# Altium integrated library National Semiconductor Interface.IntLib: 1433 symbols (part 14 of 51)
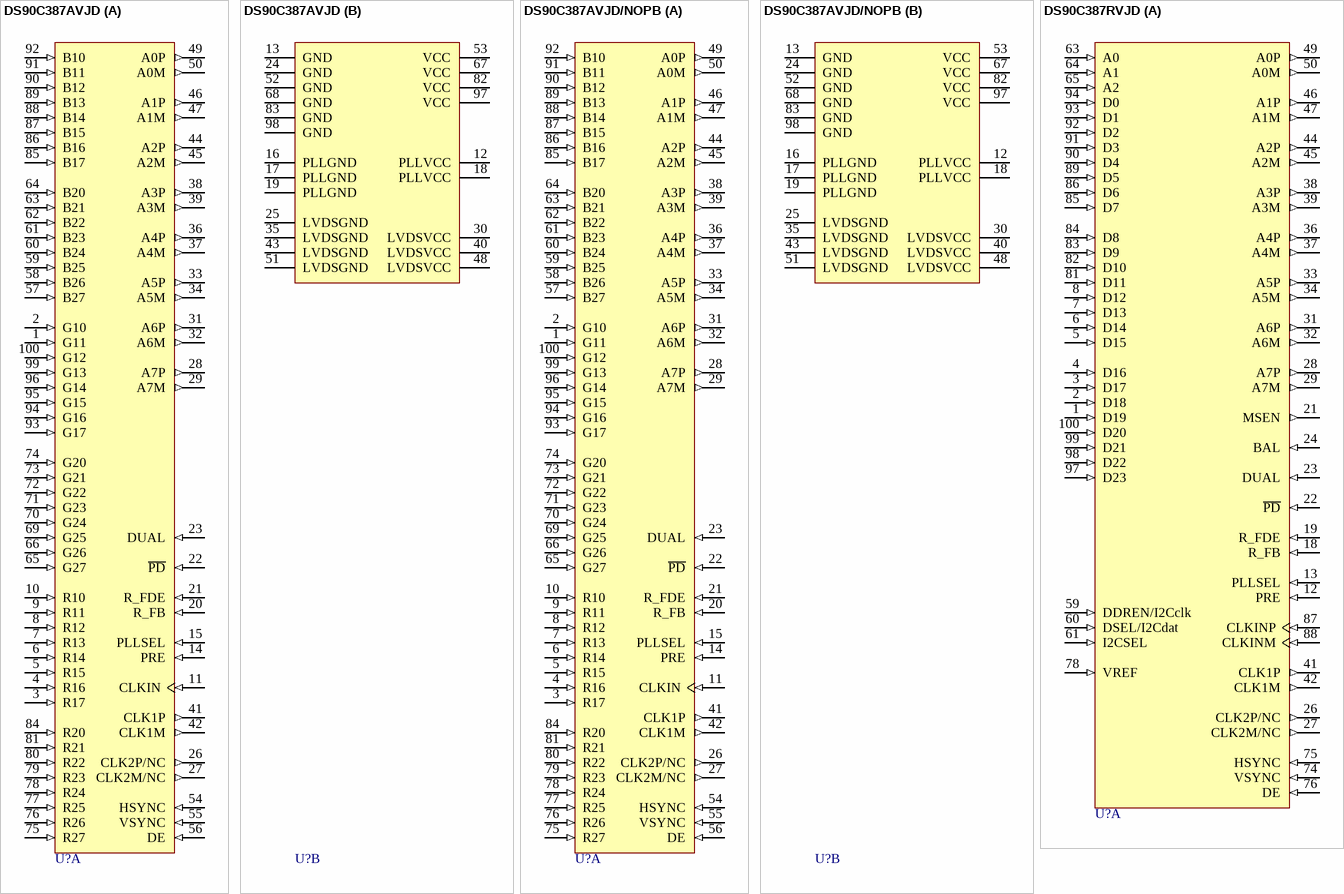
[diagram p137: symbols DS90C387AVJD to DS90C387RVJD]

## DS90C387AVJD/NOPB
designator U?
Dual Pixel LVDS Display Interface / FPD-Link Transmitter, 100-pin TQFP, Pb-Free; PartNumber: DS90C387AVJD/NOPB; Manufacturer: National Semiconductor; PackageTopMarking: NS2ZXYYTTE#*DS90C387AVJD*BBBBB; PowerWise: N; CompType: Interface IC; High-Reliability: Y; DatasheetVersion: Feb-2006; PackageVersion: revC, May-2004; PackageReference: VJD100A; PackageDescription: TQFP, Jedec, Metric, 14 x 14 x 1.0mm, 100 Lead; RoHS: Y; PinCount: 100; Code_JEDEC: MS-026-AED; ComponentLink1Description: Manufacturer URL; ComponentLink1URL: http://www.national.com/; ComponentLink2Description: DS90C387A Datasheet; ComponentLink2URL: http://www.national.com/ds/DS/DS90C387A.pdf; ComponentLink3Description: DS90C387A Web Page; ComponentLink3URL: http://www.national.com/pf/DS/DS90C387A.html; ComponentLink4Description: VJD100A Package Page; ComponentLink4URL: http://www.national.com/packaging/folders/vjd100a.html
footprint VJD100A_N (Thin QFP, 100-Leads, Body 14x14mm, Pitch 0.5mm, IPC Medium Density)
footprint VJD100A_L (Thin QFP, 100-Leads, Body 14x14mm, Pitch 0.5mm, IPC High Density)
footprint VJD100A_M (Thin QFP, 100-Leads, Body 14x14mm, Pitch 0.5mm, IPC Low Density)
part A pins: 1 G11 (in), 2 G10 (in), 3 R17 (in), 4 R16 (in), 5 R15 (in), 6 R14 (in), 7 R13 (in), 8 R12 (in), 9 R11 (in), 10 R10 (in), 11 CLKIN (in), 14 PRE (in), 15 PLLSEL (in), 20 R_FB (in), 21 R_FDE (in), 22 ~{PD} (in), 23 DUAL (in), 26 CLK2P/NC (out), 27 CLK2M/NC (out), 28 A7P (out), 29 A7M (out), 31 A6P (out), 32 A6M (out), 33 A5P (out), 34 A5M (out), 36 A4P (out), 37 A4M (out), 38 A3P (out), 39 A3M (out), 41 CLK1P (out), 42 CLK1M (out), 44 A2P (out), 45 A2M (out), 46 A1P (out), 47 A1M (out), 49 A0P (out), 50 A0M (out), 54 HSYNC (in), 55 VSYNC (in), 56 DE (in), 57 B27 (in), 58 B26 (in), 59 B25 (in), 60 B24 (in), 61 B23 (in), 62 B22 (in), 63 B21 (in), 64 B20 (in), 65 G27 (in), 66 G26 (in), 69 G25 (in), 70 G24 (in), 71 G23 (in), 72 G22 (in), 73 G21 (in), 74 G20 (in), 75 R27 (in), 76 R26 (in), 77 R25 (in), 78 R24 (in), 79 R23 (in), 80 R22 (in), 81 R21 (in), 84 R20 (in), 85 B17 (in), 86 B16 (in), 87 B15 (in), 88 B14 (in), 89 B13 (in), 90 B12 (in), 91 B11 (in), 92 B10 (in), 93 G17 (in), 94 G16 (in), 95 G15 (in), 96 G14 (in), 99 G13 (in), 100 G12 (in)
part B pins: 12 PLLVCC (power), 13 GND (power), 16 PLLGND (power), 17 PLLGND (power), 18 PLLVCC (power), 19 PLLGND (power), 24 GND (power), 25 LVDSGND (power), 30 LVDSVCC (power), 35 LVDSGND (power), 40 LVDSVCC (power), 43 LVDSGND (power), 48 LVDSVCC (power), 51 LVDSGND (power), 52 GND (power), 53 VCC (power), 67 VCC (power), 68 GND (power), 82 VCC (power), 83 GND (power), 97 VCC (power), 98 GND (power)

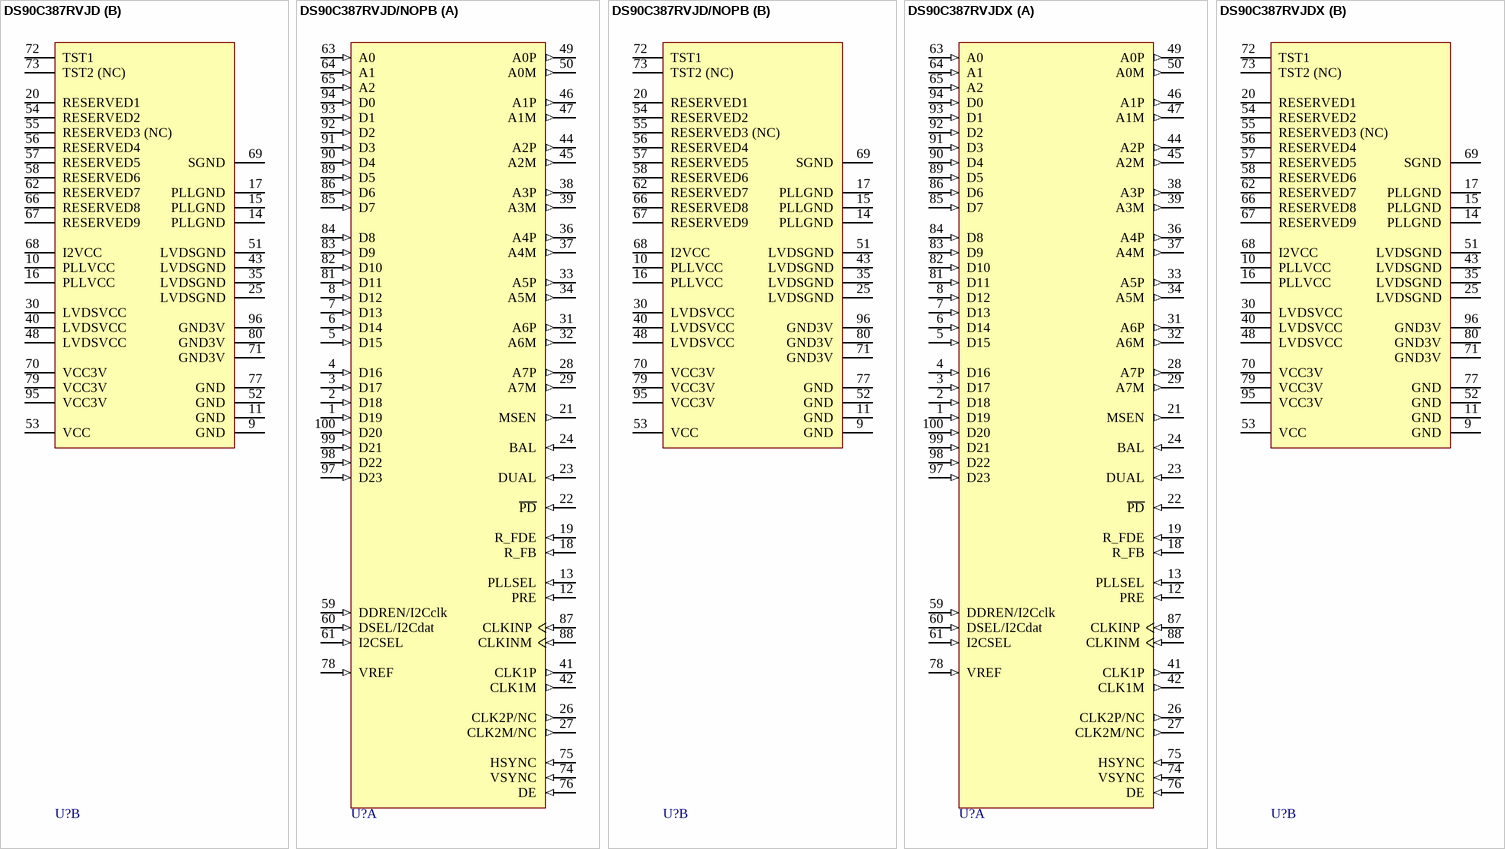
[diagram p34: symbols DS90C387RVJD to DS90C387RVJDX]

## DS90C387RVJD
designator U?
85MHz Dual 12-Bit Double Pumped Input LDI Transmitter VGA/UXGA, 100-pin TQFP; PartNumber: DS90C387RVJD; Manufacturer: National Semiconductor; PackageTopMarking: NS2ZXYYTTE#*DS90C387RVJD*BBBBB; PowerWise: N; CompType: Interface IC; High-Reliability: Y; DatasheetVersion: Dec-2003; PackageVersion: revC, May-2004; PackageReference: VJD100A; PackageDescription: TQFP, Jedec, Metric, 14 x 14 x 1.0mm, 100 Lead; RoHS: N; PinCount: 100; Code_JEDEC: MS-026-AED; ComponentLink1Description: Manufacturer URL; ComponentLink1URL: http://www.national.com/; ComponentLink2Description: DS90C387R Datasheet; ComponentLink2URL: http://www.national.com/ds/DS/DS90C387R.pdf; ComponentLink3Description: DS90C387R Web Page; ComponentLink3URL: http://www.national.com/pf/DS/DS90C387R.html; ComponentLink4Description: VJD100A Package Page; ComponentLink4URL: http://www.national.com/packaging/folders/vjd100a.html
footprint VJD100A_N (Thin QFP, 100-Leads, Body 14x14mm, Pitch 0.5mm, IPC Medium Density)
footprint VJD100A_L (Thin QFP, 100-Leads, Body 14x14mm, Pitch 0.5mm, IPC High Density)
footprint VJD100A_M (Thin QFP, 100-Leads, Body 14x14mm, Pitch 0.5mm, IPC Low Density)
part A pins: 1 D19 (in), 2 D18 (in), 3 D17 (in), 4 D16 (in), 5 D15 (in), 6 D14 (in), 7 D13 (in), 8 D12  (in), 12 PRE (in), 13 PLLSEL (in), 18 R_FB (in), 19 R_FDE (in), 21 MSEN (out), 22 ~{PD} (in), 23 DUAL (in), 24 BAL (in), 26 CLK2P/NC (out), 27 CLK2M/NC (out), 28 A7P (out), 29 A7M (out), 31 A6P (out), 32 A6M (out), 33 A5P (out), 34 A5M (out), 36 A4P (out), 37 A4M (out), 38 A3P (out), 39 A3M (out), 41 CLK1P (out), 42 CLK1M (out), 44 A2P (out), 45 A2M (out), 46 A1P (out), 47 A1M (out), 49 A0P (out), 50 A0M (out), 59 DDREN/I2Cclk (in), 60 DSEL/I2Cdat (in), 61 I2CSEL (in), 63 A0 (in), 64 A1 (in), 65 A2 (in), 74 VSYNC (in), 75 HSYNC (in), 76 DE (in), 78 VREF (in), 81 D11 (in), 82 D10 (in), 83 D9 (in), 84 D8 (in), 85 D7 (in), 86 D6 (in), 87 CLKINP (in), 88 CLKINM (in), 89 D5 (in), 90 D4 (in), 91 D3 (in), 92 D2 (in), 93 D1 (in), 94 D0 (in), 97 D23 (in), 98 D22 (in), 99 D21 (in), 100 D20 (in)
part B pins: 9 GND (power), 10 PLLVCC (power), 11 GND (power), 14 PLLGND (power), 15 PLLGND (power), 16 PLLVCC (power), 17 PLLGND (power), 20 RESERVED1, 25 LVDSGND (power), 30 LVDSVCC (power), 35 LVDSGND (power), 40 LVDSVCC (power), 43 LVDSGND (power), 48 LVDSVCC (power), 51 LVDSGND (power), 52 GND (power), 53 VCC (power), 54 RESERVED2, 55 RESERVED3 (NC), 56 RESERVED4, 57 RESERVED5, 58 RESERVED6, 62 RESERVED7, 66 RESERVED8, 67 RESERVED9, 68 I2VCC (power), 69 SGND (power), 70 VCC3V (power), 71 GND3V (power), 72 TST1, 73 TST2 (NC), 77 GND (power), 79 VCC3V (power), 80 GND3V (power), 95 VCC3V (power), 96 GND3V (power)

## DS90C387RVJD/NOPB
designator U?
85MHz Dual 12-Bit Double Pumped Input LDI Transmitter VGA/UXGA, 100-pin TQFP, Pb-Free; PartNumber: DS90C387RVJD/NOPB; Manufacturer: National Semiconductor; PackageTopMarking: NS2ZXYYTTE#*DS90C387RVJD*BBBBB; PowerWise: N; CompType: Interface IC; High-Reliability: Y; DatasheetVersion: Dec-2003; PackageVersion: revC, May-2004; PackageReference: VJD100A; PackageDescription: TQFP, Jedec, Metric, 14 x 14 x 1.0mm, 100 Lead; RoHS: Y; PinCount: 100; Code_JEDEC: MS-026-AED; ComponentLink1Description: Manufacturer URL; ComponentLink1URL: http://www.national.com/; ComponentLink2Description: DS90C387R Datasheet; ComponentLink2URL: http://www.national.com/ds/DS/DS90C387R.pdf; ComponentLink3Description: DS90C387R Web Page; ComponentLink3URL: http://www.national.com/pf/DS/DS90C387R.html; ComponentLink4Description: VJD100A Package Page; ComponentLink4URL: http://www.national.com/packaging/folders/vjd100a.html
footprint VJD100A_N (Thin QFP, 100-Leads, Body 14x14mm, Pitch 0.5mm, IPC Medium Density)
footprint VJD100A_L (Thin QFP, 100-Leads, Body 14x14mm, Pitch 0.5mm, IPC High Density)
footprint VJD100A_M (Thin QFP, 100-Leads, Body 14x14mm, Pitch 0.5mm, IPC Low Density)
part A pins: 1 D19 (in), 2 D18 (in), 3 D17 (in), 4 D16 (in), 5 D15 (in), 6 D14 (in), 7 D13 (in), 8 D12  (in), 12 PRE (in), 13 PLLSEL (in), 18 R_FB (in), 19 R_FDE (in), 21 MSEN (out), 22 ~{PD} (in), 23 DUAL (in), 24 BAL (in), 26 CLK2P/NC (out), 27 CLK2M/NC (out), 28 A7P (out), 29 A7M (out), 31 A6P (out), 32 A6M (out), 33 A5P (out), 34 A5M (out), 36 A4P (out), 37 A4M (out), 38 A3P (out), 39 A3M (out), 41 CLK1P (out), 42 CLK1M (out), 44 A2P (out), 45 A2M (out), 46 A1P (out), 47 A1M (out), 49 A0P (out), 50 A0M (out), 59 DDREN/I2Cclk (in), 60 DSEL/I2Cdat (in), 61 I2CSEL (in), 63 A0 (in), 64 A1 (in), 65 A2 (in), 74 VSYNC (in), 75 HSYNC (in), 76 DE (in), 78 VREF (in), 81 D11 (in), 82 D10 (in), 83 D9 (in), 84 D8 (in), 85 D7 (in), 86 D6 (in), 87 CLKINP (in), 88 CLKINM (in), 89 D5 (in), 90 D4 (in), 91 D3 (in), 92 D2 (in), 93 D1 (in), 94 D0 (in), 97 D23 (in), 98 D22 (in), 99 D21 (in), 100 D20 (in)
part B pins: 9 GND (power), 10 PLLVCC (power), 11 GND (power), 14 PLLGND (power), 15 PLLGND (power), 16 PLLVCC (power), 17 PLLGND (power), 20 RESERVED1, 25 LVDSGND (power), 30 LVDSVCC (power), 35 LVDSGND (power), 40 LVDSVCC (power), 43 LVDSGND (power), 48 LVDSVCC (power), 51 LVDSGND (power), 52 GND (power), 53 VCC (power), 54 RESERVED2, 55 RESERVED3 (NC), 56 RESERVED4, 57 RESERVED5, 58 RESERVED6, 62 RESERVED7, 66 RESERVED8, 67 RESERVED9, 68 I2VCC (power), 69 SGND (power), 70 VCC3V (power), 71 GND3V (power), 72 TST1, 73 TST2 (NC), 77 GND (power), 79 VCC3V (power), 80 GND3V (power), 95 VCC3V (power), 96 GND3V (power)

## DS90C387RVJDX
designator U?
85MHz Dual 12-Bit Double Pumped Input LDI Transmitter VGA/UXGA, 100-pin TQFP; PartNumber: DS90C387RVJDX; Manufacturer: National Semiconductor; PackageTopMarking: NS2ZXYYTTE#*DS90C387RVJD*BBBBB; PowerWise: N; CompType: Interface IC; High-Reliability: Y; DatasheetVersion: Dec-2003; PackageVersion: revC, May-2004; PackageReference: VJD100A; PackageDescription: TQFP, Jedec, Metric, 14 x 14 x 1.0mm, 100 Lead; RoHS: N; PinCount: 100; Code_JEDEC: MS-026-AED; ComponentLink1Description: Manufacturer URL; ComponentLink1URL: http://www.national.com/; ComponentLink2Description: DS90C387R Datasheet; ComponentLink2URL: http://www.national.com/ds/DS/DS90C387R.pdf; ComponentLink3Description: DS90C387R Web Page; ComponentLink3URL: http://www.national.com/pf/DS/DS90C387R.html; ComponentLink4Description: VJD100A Package Page; ComponentLink4URL: http://www.national.com/packaging/folders/vjd100a.html
footprint VJD100A_N (Thin QFP, 100-Leads, Body 14x14mm, Pitch 0.5mm, IPC Medium Density)
footprint VJD100A_L (Thin QFP, 100-Leads, Body 14x14mm, Pitch 0.5mm, IPC High Density)
footprint VJD100A_M (Thin QFP, 100-Leads, Body 14x14mm, Pitch 0.5mm, IPC Low Density)
part A pins: 1 D19 (in), 2 D18 (in), 3 D17 (in), 4 D16 (in), 5 D15 (in), 6 D14 (in), 7 D13 (in), 8 D12  (in), 12 PRE (in), 13 PLLSEL (in), 18 R_FB (in), 19 R_FDE (in), 21 MSEN (out), 22 ~{PD} (in), 23 DUAL (in), 24 BAL (in), 26 CLK2P/NC (out), 27 CLK2M/NC (out), 28 A7P (out), 29 A7M (out), 31 A6P (out), 32 A6M (out), 33 A5P (out), 34 A5M (out), 36 A4P (out), 37 A4M (out), 38 A3P (out), 39 A3M (out), 41 CLK1P (out), 42 CLK1M (out), 44 A2P (out), 45 A2M (out), 46 A1P (out), 47 A1M (out), 49 A0P (out), 50 A0M (out), 59 DDREN/I2Cclk (in), 60 DSEL/I2Cdat (in), 61 I2CSEL (in), 63 A0 (in), 64 A1 (in), 65 A2 (in), 74 VSYNC (in), 75 HSYNC (in), 76 DE (in), 78 VREF (in), 81 D11 (in), 82 D10 (in), 83 D9 (in), 84 D8 (in), 85 D7 (in), 86 D6 (in), 87 CLKINP (in), 88 CLKINM (in), 89 D5 (in), 90 D4 (in), 91 D3 (in), 92 D2 (in), 93 D1 (in), 94 D0 (in), 97 D23 (in), 98 D22 (in), 99 D21 (in), 100 D20 (in)
part B pins: 9 GND (power), 10 PLLVCC (power), 11 GND (power), 14 PLLGND (power), 15 PLLGND (power), 16 PLLVCC (power), 17 PLLGND (power), 20 RESERVED1, 25 LVDSGND (power), 30 LVDSVCC (power), 35 LVDSGND (power), 40 LVDSVCC (power), 43 LVDSGND (power), 48 LVDSVCC (power), 51 LVDSGND (power), 52 GND (power), 53 VCC (power), 54 RESERVED2, 55 RESERVED3 (NC), 56 RESERVED4, 57 RESERVED5, 58 RESERVED6, 62 RESERVED7, 66 RESERVED8, 67 RESERVED9, 68 I2VCC (power), 69 SGND (power), 70 VCC3V (power), 71 GND3V (power), 72 TST1, 73 TST2 (NC), 77 GND (power), 79 VCC3V (power), 80 GND3V (power), 95 VCC3V (power), 96 GND3V (power)

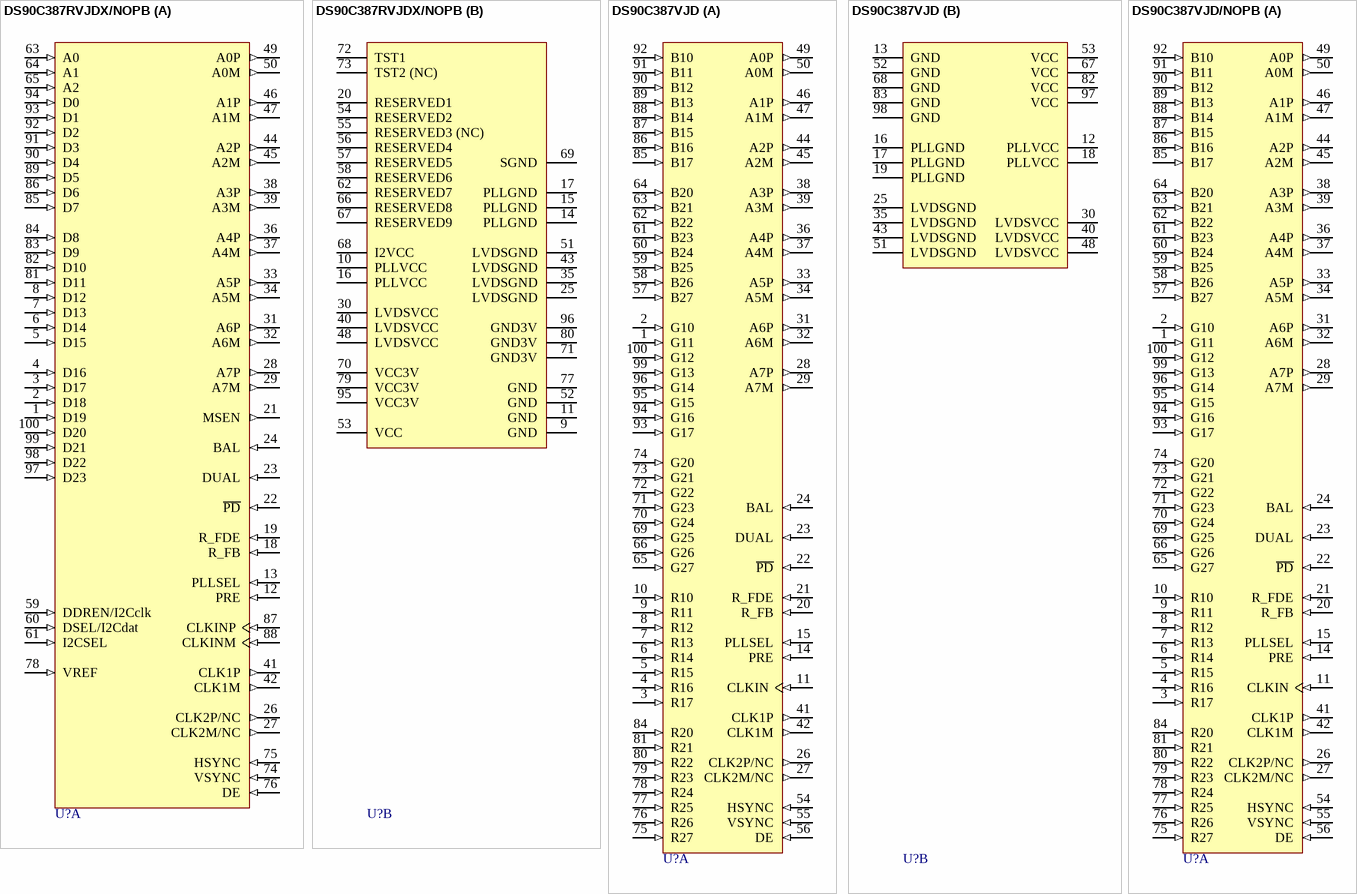
[diagram p35: symbols DS90C387RVJDX/NOPB to DS90C387VJD/NOPB]

## DS90C387RVJDX/NOPB
designator U?
85MHz Dual 12-Bit Double Pumped Input LDI Transmitter VGA/UXGA, 100-pin TQFP, Pb-Free; PartNumber: DS90C387RVJDX/NOPB; Manufacturer: National Semiconductor; PackageTopMarking: NS2ZXYYTTE#*DS90C387RVJD*BBBBB; PowerWise: N; CompType: Interface IC; High-Reliability: Y; DatasheetVersion: Dec-2003; PackageVersion: revC, May-2004; PackageReference: VJD100A; PackageDescription: TQFP, Jedec, Metric, 14 x 14 x 1.0mm, 100 Lead; RoHS: Y; PinCount: 100; Code_JEDEC: MS-026-AED; ComponentLink1Description: Manufacturer URL; ComponentLink1URL: http://www.national.com/; ComponentLink2Description: DS90C387R Datasheet; ComponentLink2URL: http://www.national.com/ds/DS/DS90C387R.pdf; ComponentLink3Description: DS90C387R Web Page; ComponentLink3URL: http://www.national.com/pf/DS/DS90C387R.html; ComponentLink4Description: VJD100A Package Page; ComponentLink4URL: http://www.national.com/packaging/folders/vjd100a.html
footprint VJD100A_N (Thin QFP, 100-Leads, Body 14x14mm, Pitch 0.5mm, IPC Medium Density)
footprint VJD100A_L (Thin QFP, 100-Leads, Body 14x14mm, Pitch 0.5mm, IPC High Density)
footprint VJD100A_M (Thin QFP, 100-Leads, Body 14x14mm, Pitch 0.5mm, IPC Low Density)
part A pins: 1 D19 (in), 2 D18 (in), 3 D17 (in), 4 D16 (in), 5 D15 (in), 6 D14 (in), 7 D13 (in), 8 D12  (in), 12 PRE (in), 13 PLLSEL (in), 18 R_FB (in), 19 R_FDE (in), 21 MSEN (out), 22 ~{PD} (in), 23 DUAL (in), 24 BAL (in), 26 CLK2P/NC (out), 27 CLK2M/NC (out), 28 A7P (out), 29 A7M (out), 31 A6P (out), 32 A6M (out), 33 A5P (out), 34 A5M (out), 36 A4P (out), 37 A4M (out), 38 A3P (out), 39 A3M (out), 41 CLK1P (out), 42 CLK1M (out), 44 A2P (out), 45 A2M (out), 46 A1P (out), 47 A1M (out), 49 A0P (out), 50 A0M (out), 59 DDREN/I2Cclk (in), 60 DSEL/I2Cdat (in), 61 I2CSEL (in), 63 A0 (in), 64 A1 (in), 65 A2 (in), 74 VSYNC (in), 75 HSYNC (in), 76 DE (in), 78 VREF (in), 81 D11 (in), 82 D10 (in), 83 D9 (in), 84 D8 (in), 85 D7 (in), 86 D6 (in), 87 CLKINP (in), 88 CLKINM (in), 89 D5 (in), 90 D4 (in), 91 D3 (in), 92 D2 (in), 93 D1 (in), 94 D0 (in), 97 D23 (in), 98 D22 (in), 99 D21 (in), 100 D20 (in)
part B pins: 9 GND (power), 10 PLLVCC (power), 11 GND (power), 14 PLLGND (power), 15 PLLGND (power), 16 PLLVCC (power), 17 PLLGND (power), 20 RESERVED1, 25 LVDSGND (power), 30 LVDSVCC (power), 35 LVDSGND (power), 40 LVDSVCC (power), 43 LVDSGND (power), 48 LVDSVCC (power), 51 LVDSGND (power), 52 GND (power), 53 VCC (power), 54 RESERVED2, 55 RESERVED3 (NC), 56 RESERVED4, 57 RESERVED5, 58 RESERVED6, 62 RESERVED7, 66 RESERVED8, 67 RESERVED9, 68 I2VCC (power), 69 SGND (power), 70 VCC3V (power), 71 GND3V (power), 72 TST1, 73 TST2 (NC), 77 GND (power), 79 VCC3V (power), 80 GND3V (power), 95 VCC3V (power), 96 GND3V (power)

## DS90C387VJD
designator U?
+3.3V Dual Pixel LVDS Display Interface (LDI)-SVGA/QXGA, 100-pin TQFP; PartNumber: DS90C387VJD; Manufacturer: National Semiconductor; PackageTopMarking: NS2ZXYYTTE#*DS90C387VJD*BBBBB; PowerWise: N; CompType: Interface IC; High-Reliability: Y; DatasheetVersion: Feb-2006; PackageVersion: revC, May-2004; PackageReference: VJD100A; PackageDescription: TQFP, Jedec, Metric, 14 x 14 x 1.0mm, 100 Lead; RoHS: N; PinCount: 100; Code_JEDEC: MS-026-AED; ComponentLink1Description: Manufacturer URL; ComponentLink1URL: http://www.national.com/; ComponentLink2Description: DS90C387 Datasheet; ComponentLink2URL: http://www.national.com/ds/DS/DS90C387.pdf; ComponentLink3Description: DS90C387 Web Page; ComponentLink3URL: http://www.national.com/pf/DS/DS90C387.html; ComponentLink4Description: VJD100A Package Page; ComponentLink4URL: http://www.national.com/packaging/folders/vjd100a.html
footprint VJD100A_N (Thin QFP, 100-Leads, Body 14x14mm, Pitch 0.5mm, IPC Medium Density)
footprint VJD100A_L (Thin QFP, 100-Leads, Body 14x14mm, Pitch 0.5mm, IPC High Density)
footprint VJD100A_M (Thin QFP, 100-Leads, Body 14x14mm, Pitch 0.5mm, IPC Low Density)
part A pins: 1 G11 (in), 2 G10 (in), 3 R17 (in), 4 R16 (in), 5 R15 (in), 6 R14 (in), 7 R13 (in), 8 R12 (in), 9 R11 (in), 10 R10 (in), 11 CLKIN (in), 14 PRE (in), 15 PLLSEL (in), 20 R_FB (in), 21 R_FDE (in), 22 ~{PD} (in), 23 DUAL (in), 24 BAL (in), 26 CLK2P/NC (out), 27 CLK2M/NC (out), 28 A7P (out), 29 A7M (out), 31 A6P (out), 32 A6M (out), 33 A5P (out), 34 A5M (out), 36 A4P (out), 37 A4M (out), 38 A3P (out), 39 A3M (out), 41 CLK1P (out), 42 CLK1M (out), 44 A2P (out), 45 A2M (out), 46 A1P (out), 47 A1M (out), 49 A0P (out), 50 A0M (out), 54 HSYNC (in), 55 VSYNC (in), 56 DE (in), 57 B27 (in), 58 B26 (in), 59 B25 (in), 60 B24 (in), 61 B23 (in), 62 B22 (in), 63 B21 (in), 64 B20 (in), 65 G27 (in), 66 G26 (in), 69 G25 (in), 70 G24 (in), 71 G23 (in), 72 G22 (in), 73 G21 (in), 74 G20 (in), 75 R27 (in), 76 R26 (in), 77 R25 (in), 78 R24 (in), 79 R23 (in), 80 R22 (in), 81 R21 (in), 84 R20 (in), 85 B17 (in), 86 B16 (in), 87 B15 (in), 88 B14 (in), 89 B13 (in), 90 B12 (in), 91 B11 (in), 92 B10 (in), 93 G17 (in), 94 G16 (in), 95 G15 (in), 96 G14 (in), 99 G13 (in), 100 G12 (in)
part B pins: 12 PLLVCC (power), 13 GND (power), 16 PLLGND (power), 17 PLLGND (power), 18 PLLVCC (power), 19 PLLGND (power), 25 LVDSGND (power), 30 LVDSVCC (power), 35 LVDSGND (power), 40 LVDSVCC (power), 43 LVDSGND (power), 48 LVDSVCC (power), 51 LVDSGND (power), 52 GND (power), 53 VCC (power), 67 VCC (power), 68 GND (power), 82 VCC (power), 83 GND (power), 97 VCC (power), 98 GND (power)

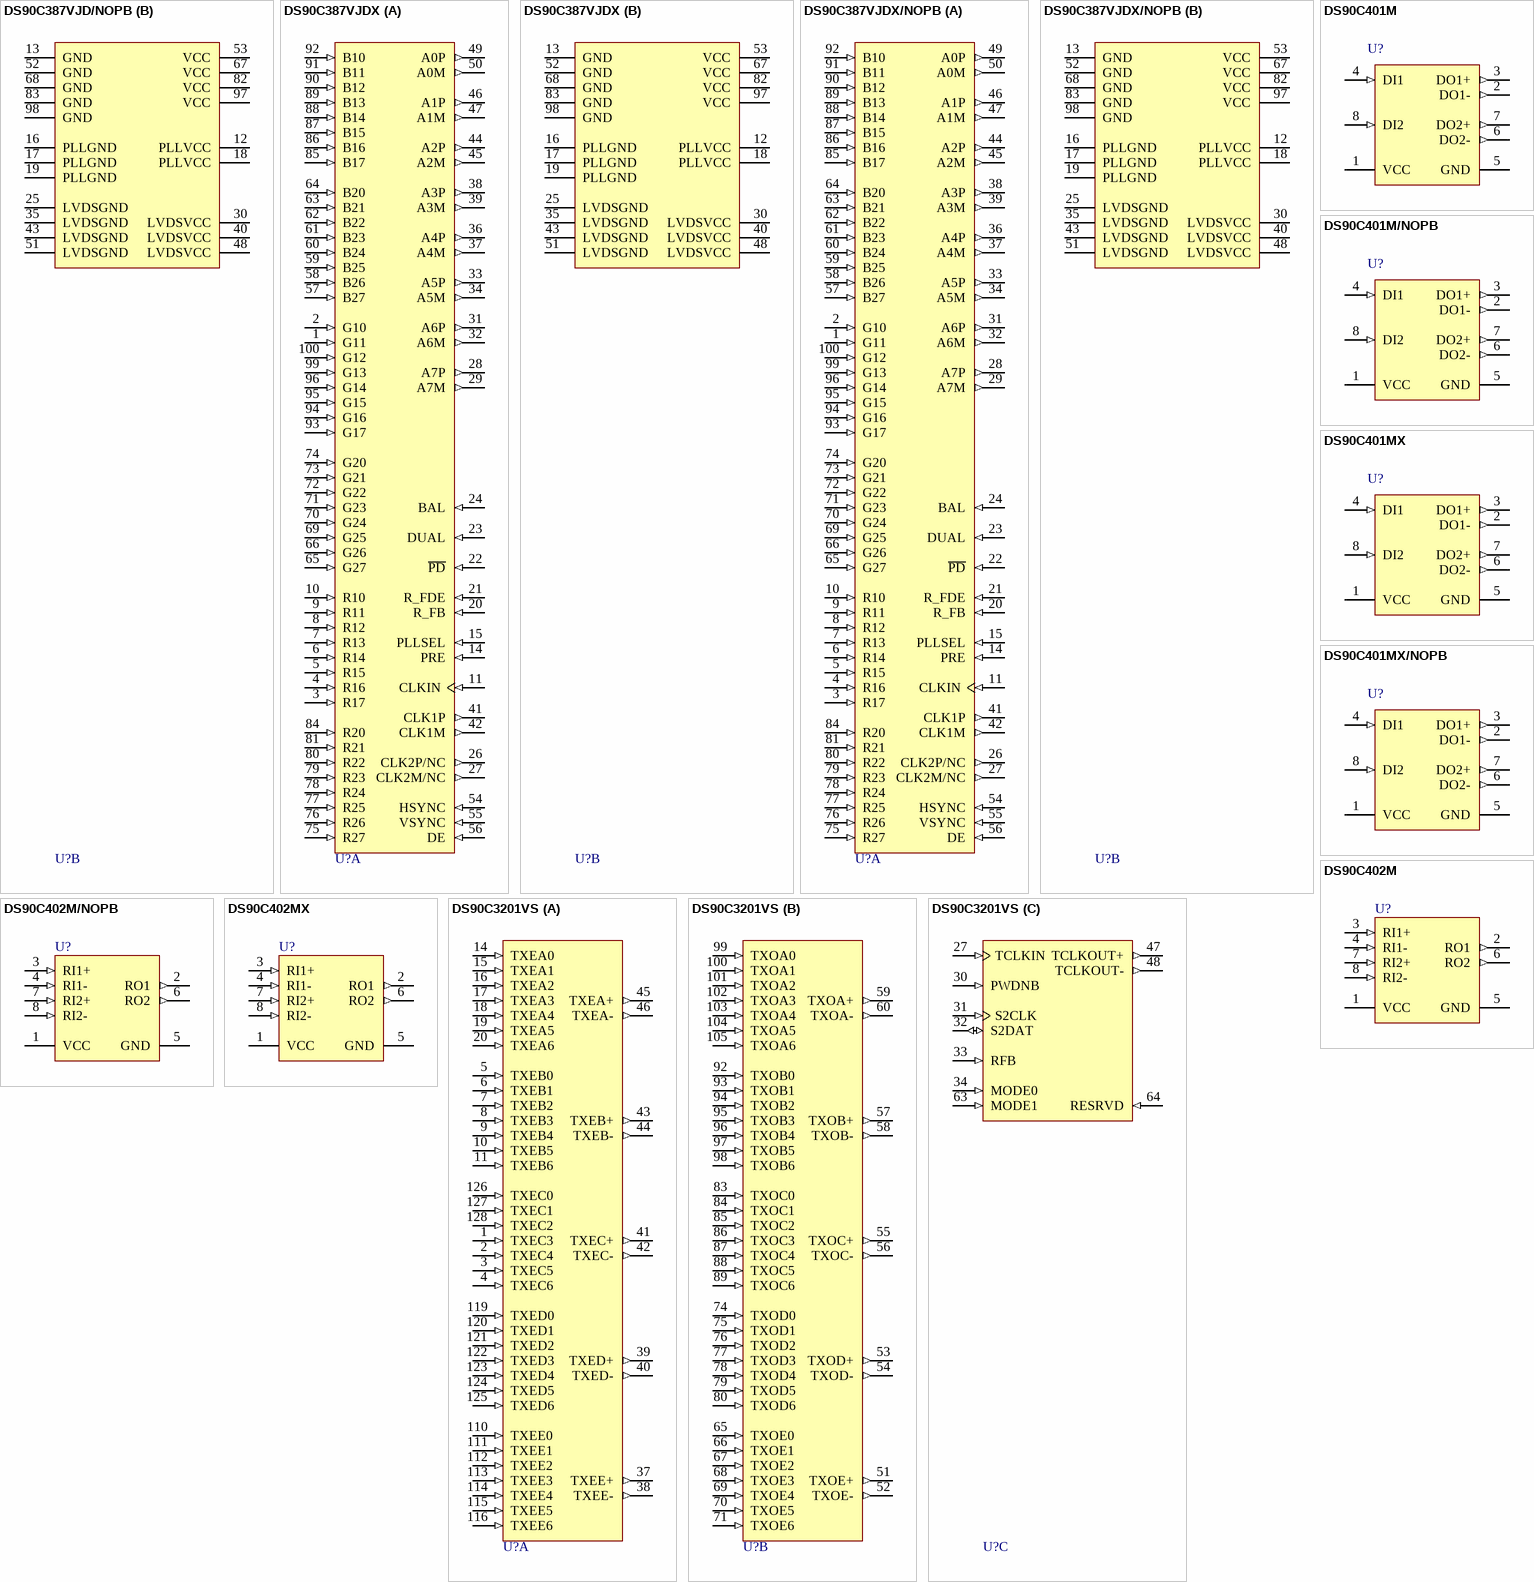
[diagram p36: symbols DS90C387VJD/NOPB to DS90C3201VS]

## DS90C387VJD/NOPB
designator U?
+3.3V Dual Pixel LVDS Display Interface (LDI)-SVGA/QXGA, 100-pin TQFP, Pb-Free; PartNumber: DS90C387VJD/NOPB; Manufacturer: National Semiconductor; PackageTopMarking: NS2ZXYYTTE#*DS90C387VJD*BBBBB; PowerWise: N; CompType: Interface IC; High-Reliability: Y; DatasheetVersion: Feb-2006; PackageVersion: revC, May-2004; PackageReference: VJD100A; PackageDescription: TQFP, Jedec, Metric, 14 x 14 x 1.0mm, 100 Lead; RoHS: Y; PinCount: 100; Code_JEDEC: MS-026-AED; ComponentLink1Description: Manufacturer URL; ComponentLink1URL: http://www.national.com/; ComponentLink2Description: DS90C387 Datasheet; ComponentLink2URL: http://www.national.com/ds/DS/DS90C387.pdf; ComponentLink3Description: DS90C387 Web Page; ComponentLink3URL: http://www.national.com/pf/DS/DS90C387.html; ComponentLink4Description: VJD100A Package Page; ComponentLink4URL: http://www.national.com/packaging/folders/vjd100a.html
footprint VJD100A_N (Thin QFP, 100-Leads, Body 14x14mm, Pitch 0.5mm, IPC Medium Density)
footprint VJD100A_L (Thin QFP, 100-Leads, Body 14x14mm, Pitch 0.5mm, IPC High Density)
footprint VJD100A_M (Thin QFP, 100-Leads, Body 14x14mm, Pitch 0.5mm, IPC Low Density)
part A pins: 1 G11 (in), 2 G10 (in), 3 R17 (in), 4 R16 (in), 5 R15 (in), 6 R14 (in), 7 R13 (in), 8 R12 (in), 9 R11 (in), 10 R10 (in), 11 CLKIN (in), 14 PRE (in), 15 PLLSEL (in), 20 R_FB (in), 21 R_FDE (in), 22 ~{PD} (in), 23 DUAL (in), 24 BAL (in), 26 CLK2P/NC (out), 27 CLK2M/NC (out), 28 A7P (out), 29 A7M (out), 31 A6P (out), 32 A6M (out), 33 A5P (out), 34 A5M (out), 36 A4P (out), 37 A4M (out), 38 A3P (out), 39 A3M (out), 41 CLK1P (out), 42 CLK1M (out), 44 A2P (out), 45 A2M (out), 46 A1P (out), 47 A1M (out), 49 A0P (out), 50 A0M (out), 54 HSYNC (in), 55 VSYNC (in), 56 DE (in), 57 B27 (in), 58 B26 (in), 59 B25 (in), 60 B24 (in), 61 B23 (in), 62 B22 (in), 63 B21 (in), 64 B20 (in), 65 G27 (in), 66 G26 (in), 69 G25 (in), 70 G24 (in), 71 G23 (in), 72 G22 (in), 73 G21 (in), 74 G20 (in), 75 R27 (in), 76 R26 (in), 77 R25 (in), 78 R24 (in), 79 R23 (in), 80 R22 (in), 81 R21 (in), 84 R20 (in), 85 B17 (in), 86 B16 (in), 87 B15 (in), 88 B14 (in), 89 B13 (in), 90 B12 (in), 91 B11 (in), 92 B10 (in), 93 G17 (in), 94 G16 (in), 95 G15 (in), 96 G14 (in), 99 G13 (in), 100 G12 (in)
part B pins: 12 PLLVCC (power), 13 GND (power), 16 PLLGND (power), 17 PLLGND (power), 18 PLLVCC (power), 19 PLLGND (power), 25 LVDSGND (power), 30 LVDSVCC (power), 35 LVDSGND (power), 40 LVDSVCC (power), 43 LVDSGND (power), 48 LVDSVCC (power), 51 LVDSGND (power), 52 GND (power), 53 VCC (power), 67 VCC (power), 68 GND (power), 82 VCC (power), 83 GND (power), 97 VCC (power), 98 GND (power)

## DS90C387VJDX
designator U?
+3.3V Dual Pixel LVDS Display Interface (LDI)-SVGA/QXGA, 100-pin TQFP; PartNumber: DS90C387VJDX; Manufacturer: National Semiconductor; PackageTopMarking: NS2ZXYYTTE#*DS90C387VJD*BBBBB; PowerWise: N; CompType: Interface IC; High-Reliability: Y; DatasheetVersion: Feb-2006; PackageVersion: revC, May-2004; PackageReference: VJD100A; PackageDescription: TQFP, Jedec, Metric, 14 x 14 x 1.0mm, 100 Lead; RoHS: N; PinCount: 100; Code_JEDEC: MS-026-AED; ComponentLink1Description: Manufacturer URL; ComponentLink1URL: http://www.national.com/; ComponentLink2Description: DS90C387 Datasheet; ComponentLink2URL: http://www.national.com/ds/DS/DS90C387.pdf; ComponentLink3Description: DS90C387 Web Page; ComponentLink3URL: http://www.national.com/pf/DS/DS90C387.html; ComponentLink4Description: VJD100A Package Page; ComponentLink4URL: http://www.national.com/packaging/folders/vjd100a.html
footprint VJD100A_N (Thin QFP, 100-Leads, Body 14x14mm, Pitch 0.5mm, IPC Medium Density)
footprint VJD100A_L (Thin QFP, 100-Leads, Body 14x14mm, Pitch 0.5mm, IPC High Density)
footprint VJD100A_M (Thin QFP, 100-Leads, Body 14x14mm, Pitch 0.5mm, IPC Low Density)
part A pins: 1 G11 (in), 2 G10 (in), 3 R17 (in), 4 R16 (in), 5 R15 (in), 6 R14 (in), 7 R13 (in), 8 R12 (in), 9 R11 (in), 10 R10 (in), 11 CLKIN (in), 14 PRE (in), 15 PLLSEL (in), 20 R_FB (in), 21 R_FDE (in), 22 ~{PD} (in), 23 DUAL (in), 24 BAL (in), 26 CLK2P/NC (out), 27 CLK2M/NC (out), 28 A7P (out), 29 A7M (out), 31 A6P (out), 32 A6M (out), 33 A5P (out), 34 A5M (out), 36 A4P (out), 37 A4M (out), 38 A3P (out), 39 A3M (out), 41 CLK1P (out), 42 CLK1M (out), 44 A2P (out), 45 A2M (out), 46 A1P (out), 47 A1M (out), 49 A0P (out), 50 A0M (out), 54 HSYNC (in), 55 VSYNC (in), 56 DE (in), 57 B27 (in), 58 B26 (in), 59 B25 (in), 60 B24 (in), 61 B23 (in), 62 B22 (in), 63 B21 (in), 64 B20 (in), 65 G27 (in), 66 G26 (in), 69 G25 (in), 70 G24 (in), 71 G23 (in), 72 G22 (in), 73 G21 (in), 74 G20 (in), 75 R27 (in), 76 R26 (in), 77 R25 (in), 78 R24 (in), 79 R23 (in), 80 R22 (in), 81 R21 (in), 84 R20 (in), 85 B17 (in), 86 B16 (in), 87 B15 (in), 88 B14 (in), 89 B13 (in), 90 B12 (in), 91 B11 (in), 92 B10 (in), 93 G17 (in), 94 G16 (in), 95 G15 (in), 96 G14 (in), 99 G13 (in), 100 G12 (in)
part B pins: 12 PLLVCC (power), 13 GND (power), 16 PLLGND (power), 17 PLLGND (power), 18 PLLVCC (power), 19 PLLGND (power), 25 LVDSGND (power), 30 LVDSVCC (power), 35 LVDSGND (power), 40 LVDSVCC (power), 43 LVDSGND (power), 48 LVDSVCC (power), 51 LVDSGND (power), 52 GND (power), 53 VCC (power), 67 VCC (power), 68 GND (power), 82 VCC (power), 83 GND (power), 97 VCC (power), 98 GND (power)

## DS90C387VJDX/NOPB
designator U?
+3.3V Dual Pixel LVDS Display Interface (LDI)-SVGA/QXGA, 100-pin TQFP, Pb-Free; PartNumber: DS90C387VJDX/NOPB; Manufacturer: National Semiconductor; PackageTopMarking: NS2ZXYYTTE#*DS90C387VJD*BBBBB; PowerWise: N; CompType: Interface IC; High-Reliability: Y; DatasheetVersion: Feb-2006; PackageVersion: revC, May-2004; PackageReference: VJD100A; PackageDescription: TQFP, Jedec, Metric, 14 x 14 x 1.0mm, 100 Lead; RoHS: Y; PinCount: 100; Code_JEDEC: MS-026-AED; ComponentLink1Description: Manufacturer URL; ComponentLink1URL: http://www.national.com/; ComponentLink2Description: DS90C387 Datasheet; ComponentLink2URL: http://www.national.com/ds/DS/DS90C387.pdf; ComponentLink3Description: DS90C387 Web Page; ComponentLink3URL: http://www.national.com/pf/DS/DS90C387.html; ComponentLink4Description: VJD100A Package Page; ComponentLink4URL: http://www.national.com/packaging/folders/vjd100a.html
footprint VJD100A_N (Thin QFP, 100-Leads, Body 14x14mm, Pitch 0.5mm, IPC Medium Density)
footprint VJD100A_L (Thin QFP, 100-Leads, Body 14x14mm, Pitch 0.5mm, IPC High Density)
footprint VJD100A_M (Thin QFP, 100-Leads, Body 14x14mm, Pitch 0.5mm, IPC Low Density)
part A pins: 1 G11 (in), 2 G10 (in), 3 R17 (in), 4 R16 (in), 5 R15 (in), 6 R14 (in), 7 R13 (in), 8 R12 (in), 9 R11 (in), 10 R10 (in), 11 CLKIN (in), 14 PRE (in), 15 PLLSEL (in), 20 R_FB (in), 21 R_FDE (in), 22 ~{PD} (in), 23 DUAL (in), 24 BAL (in), 26 CLK2P/NC (out), 27 CLK2M/NC (out), 28 A7P (out), 29 A7M (out), 31 A6P (out), 32 A6M (out), 33 A5P (out), 34 A5M (out), 36 A4P (out), 37 A4M (out), 38 A3P (out), 39 A3M (out), 41 CLK1P (out), 42 CLK1M (out), 44 A2P (out), 45 A2M (out), 46 A1P (out), 47 A1M (out), 49 A0P (out), 50 A0M (out), 54 HSYNC (in), 55 VSYNC (in), 56 DE (in), 57 B27 (in), 58 B26 (in), 59 B25 (in), 60 B24 (in), 61 B23 (in), 62 B22 (in), 63 B21 (in), 64 B20 (in), 65 G27 (in), 66 G26 (in), 69 G25 (in), 70 G24 (in), 71 G23 (in), 72 G22 (in), 73 G21 (in), 74 G20 (in), 75 R27 (in), 76 R26 (in), 77 R25 (in), 78 R24 (in), 79 R23 (in), 80 R22 (in), 81 R21 (in), 84 R20 (in), 85 B17 (in), 86 B16 (in), 87 B15 (in), 88 B14 (in), 89 B13 (in), 90 B12 (in), 91 B11 (in), 92 B10 (in), 93 G17 (in), 94 G16 (in), 95 G15 (in), 96 G14 (in), 99 G13 (in), 100 G12 (in)
part B pins: 12 PLLVCC (power), 13 GND (power), 16 PLLGND (power), 17 PLLGND (power), 18 PLLVCC (power), 19 PLLGND (power), 25 LVDSGND (power), 30 LVDSVCC (power), 35 LVDSGND (power), 40 LVDSVCC (power), 43 LVDSGND (power), 48 LVDSVCC (power), 51 LVDSGND (power), 52 GND (power), 53 VCC (power), 67 VCC (power), 68 GND (power), 82 VCC (power), 83 GND (power), 97 VCC (power), 98 GND (power)

## DS90C401M
designator U?
Dual Low Voltage Differential Signaling (LVDS) Driver, 8 pin SOIC NARROW; PartNumber: DS90C401M; Manufacturer: National Semiconductor; PackageTopMarking: NSZXTT*DS90C*401M; PowerWise: N; CompType: Interface IC; High-Reliability: Y; DatasheetVersion: Aug-2005; PackageVersion: revM, May-2009; PackageReference: M08A; PackageDescription: SOIC Narrow, 4.9 x 3.9 x 1.45mm, 8 Lead, 1.27mm Pitch; RoHS: N; PinCount: 8; Code_JEDEC: MS-012-AA; Code_IPC: SOIC127P600-8; ComponentLink1Description: Manufacturer URL; ComponentLink1URL: http://www.national.com/; ComponentLink2Description: DS90C401 Datasheet; ComponentLink2URL: http://www.national.com/ds/DS/DS90C401.pdf; ComponentLink3Description: DS90C401 Web Page; ComponentLink3URL: http://www.national.com/pf/DS/DS90C401.html; ComponentLink4Description: M08A Package Page; ComponentLink4URL: http://www.national.com/packaging/folders/m08a.html
footprint M08A_N (SOIC, 8-Leads, Body 4.9x3.9mm, Pitch 1.27mm, IPC Medium Density)
footprint M08A_L (SOIC, 8-Leads, Body 4.9x3.9mm, Pitch 1.27mm, IPC High Density)
footprint M08A_M (SOIC, 8-Leads, Body 4.9x3.9mm, Pitch 1.27mm, IPC Low Density)
pins: 1 VCC (power), 2 DO1- (out), 3 DO1+ (out), 4 DI1 (in), 5 GND (power), 6 DO2- (out), 7 DO2+ (out), 8 DI2 (in)

## DS90C401M/NOPB
designator U?
Dual Low Voltage Differential Signaling (LVDS) Driver, 8 pin SOIC NARROW; PartNumber: DS90C401M/NOPB; Manufacturer: National Semiconductor; PackageTopMarking: NSZXTT*DS90C*401M; PowerWise: N; CompType: Interface IC; High-Reliability: Y; DatasheetVersion: Aug-2005; PackageVersion: revM, May-2009; PackageReference: M08A; PackageDescription: SOIC Narrow, 4.9 x 3.9 x 1.45mm, 8 Lead, 1.27mm Pitch; RoHS: Y; PinCount: 8; Code_JEDEC: MS-012-AA; Code_IPC: SOIC127P600-8; ComponentLink1Description: Manufacturer URL; ComponentLink1URL: http://www.national.com/; ComponentLink2Description: DS90C401 Datasheet; ComponentLink2URL: http://www.national.com/ds/DS/DS90C401.pdf; ComponentLink3Description: DS90C401 Web Page; ComponentLink3URL: http://www.national.com/pf/DS/DS90C401.html; ComponentLink4Description: M08A Package Page; ComponentLink4URL: http://www.national.com/packaging/folders/m08a.html
footprint M08A_N (SOIC, 8-Leads, Body 4.9x3.9mm, Pitch 1.27mm, IPC Medium Density)
footprint M08A_L (SOIC, 8-Leads, Body 4.9x3.9mm, Pitch 1.27mm, IPC High Density)
footprint M08A_M (SOIC, 8-Leads, Body 4.9x3.9mm, Pitch 1.27mm, IPC Low Density)
pins: 1 VCC (power), 2 DO1- (out), 3 DO1+ (out), 4 DI1 (in), 5 GND (power), 6 DO2- (out), 7 DO2+ (out), 8 DI2 (in)

## DS90C401MX
designator U?
Dual Low Voltage Differential Signaling (LVDS) Driver, 8 pin SOIC NARROW; PartNumber: DS90C401MX; Manufacturer: National Semiconductor; PackageTopMarking: NSZXTT*DS90C*401M; PowerWise: N; CompType: Interface IC; High-Reliability: Y; DatasheetVersion: Aug-2005; PackageVersion: revM, May-2009; PackageReference: M08A; PackageDescription: SOIC Narrow, 4.9 x 3.9 x 1.45mm, 8 Lead, 1.27mm Pitch; RoHS: N; PinCount: 8; Code_JEDEC: MS-012-AA; Code_IPC: SOIC127P600-8; ComponentLink1Description: Manufacturer URL; ComponentLink1URL: http://www.national.com/; ComponentLink2Description: DS90C401 Datasheet; ComponentLink2URL: http://www.national.com/ds/DS/DS90C401.pdf; ComponentLink3Description: DS90C401 Web Page; ComponentLink3URL: http://www.national.com/pf/DS/DS90C401.html; ComponentLink4Description: M08A Package Page; ComponentLink4URL: http://www.national.com/packaging/folders/m08a.html
footprint M08A_N (SOIC, 8-Leads, Body 4.9x3.9mm, Pitch 1.27mm, IPC Medium Density)
footprint M08A_L (SOIC, 8-Leads, Body 4.9x3.9mm, Pitch 1.27mm, IPC High Density)
footprint M08A_M (SOIC, 8-Leads, Body 4.9x3.9mm, Pitch 1.27mm, IPC Low Density)
pins: 1 VCC (power), 2 DO1- (out), 3 DO1+ (out), 4 DI1 (in), 5 GND (power), 6 DO2- (out), 7 DO2+ (out), 8 DI2 (in)

## DS90C401MX/NOPB
designator U?
Dual Low Voltage Differential Signaling (LVDS) Driver, 8 pin SOIC NARROW; PartNumber: DS90C401MX/NOPB; Manufacturer: National Semiconductor; PackageTopMarking: NSZXTT*DS90C*401M; PowerWise: N; CompType: Interface IC; High-Reliability: Y; DatasheetVersion: Aug-2005; PackageVersion: revM, May-2009; PackageReference: M08A; PackageDescription: SOIC Narrow, 4.9 x 3.9 x 1.45mm, 8 Lead, 1.27mm Pitch; RoHS: Y; PinCount: 8; Code_JEDEC: MS-012-AA; Code_IPC: SOIC127P600-8; ComponentLink1Description: Manufacturer URL; ComponentLink1URL: http://www.national.com/; ComponentLink2Description: DS90C401 Datasheet; ComponentLink2URL: http://www.national.com/ds/DS/DS90C401.pdf; ComponentLink3Description: DS90C401 Web Page; ComponentLink3URL: http://www.national.com/pf/DS/DS90C401.html; ComponentLink4Description: M08A Package Page; ComponentLink4URL: http://www.national.com/packaging/folders/m08a.html
footprint M08A_N (SOIC, 8-Leads, Body 4.9x3.9mm, Pitch 1.27mm, IPC Medium Density)
footprint M08A_L (SOIC, 8-Leads, Body 4.9x3.9mm, Pitch 1.27mm, IPC High Density)
footprint M08A_M (SOIC, 8-Leads, Body 4.9x3.9mm, Pitch 1.27mm, IPC Low Density)
pins: 1 VCC (power), 2 DO1- (out), 3 DO1+ (out), 4 DI1 (in), 5 GND (power), 6 DO2- (out), 7 DO2+ (out), 8 DI2 (in)

## DS90C402M
designator U?
Dual Low Voltage Differential Signaling (LVDS) Receiver, 8-pin Narrow SOIC; PartNumber: DS90C402M; Manufacturer: National Semiconductor; PackageTopMarking: NSZXTT*DS90C*402M; PowerWise: N; CompType: Interface IC; High-Reliability: Y; DatasheetVersion: Aug-2005; PackageVersion: revM, May-2009; PackageReference: M08A; PackageDescription: SOIC Narrow, 4.9 x 3.9 x 1.45mm, 8 Lead, 1.27mm Pitch; RoHS: N; PinCount: 8; Code_JEDEC: MS-012-AA; Code_IPC: SOIC127P600-8; ComponentLink1Description: Manufacturer URL; ComponentLink1URL: http://www.national.com/; ComponentLink2Description: DS90C402 Datasheet; ComponentLink2URL: http://www.national.com/ds/DS/DS90C402.pdf; ComponentLink3Description: DS90C402 Web Page; ComponentLink3URL: http://www.national.com/pf/DS/DS90C402.html; ComponentLink4Description: M08A Package Page; ComponentLink4URL: http://www.national.com/packaging/folders/m08a.html
footprint M08A_N (SOIC, 8-Leads, Body 4.9x3.9mm, Pitch 1.27mm, IPC Medium Density)
footprint M08A_L (SOIC, 8-Leads, Body 4.9x3.9mm, Pitch 1.27mm, IPC High Density)
footprint M08A_M (SOIC, 8-Leads, Body 4.9x3.9mm, Pitch 1.27mm, IPC Low Density)
pins: 1 VCC (power), 2 RO1 (out), 3 RI1+ (in), 4 RI1- (in), 5 GND (power), 6 RO2 (out), 7 RI2+ (in), 8 RI2- (in)

## DS90C402M/NOPB
designator U?
Dual Low Voltage Differential Signaling (LVDS) Receiver, 8-pin Narrow SOIC, Pb-Free; PartNumber: DS90C402M/NOPB; Manufacturer: National Semiconductor; PackageTopMarking: NSZXTT*DS90C*402M; PowerWise: N; CompType: Interface IC; High-Reliability: Y; DatasheetVersion: Aug-2005; PackageVersion: revM, May-2009; PackageReference: M08A; PackageDescription: SOIC Narrow, 4.9 x 3.9 x 1.45mm, 8 Lead, 1.27mm Pitch; RoHS: Y; PinCount: 8; Code_JEDEC: MS-012-AA; Code_IPC: SOIC127P600-8; ComponentLink1Description: Manufacturer URL; ComponentLink1URL: http://www.national.com/; ComponentLink2Description: DS90C402 Datasheet; ComponentLink2URL: http://www.national.com/ds/DS/DS90C402.pdf; ComponentLink3Description: DS90C402 Web Page; ComponentLink3URL: http://www.national.com/pf/DS/DS90C402.html; ComponentLink4Description: M08A Package Page; ComponentLink4URL: http://www.national.com/packaging/folders/m08a.html
footprint M08A_N (SOIC, 8-Leads, Body 4.9x3.9mm, Pitch 1.27mm, IPC Medium Density)
footprint M08A_L (SOIC, 8-Leads, Body 4.9x3.9mm, Pitch 1.27mm, IPC High Density)
footprint M08A_M (SOIC, 8-Leads, Body 4.9x3.9mm, Pitch 1.27mm, IPC Low Density)
pins: 1 VCC (power), 2 RO1 (out), 3 RI1+ (in), 4 RI1- (in), 5 GND (power), 6 RO2 (out), 7 RI2+ (in), 8 RI2- (in)

## DS90C402MX
designator U?
Dual Low Voltage Differential Signaling (LVDS) Receiver, 8-pin Narrow SOIC; PartNumber: DS90C402MX; Manufacturer: National Semiconductor; PackageTopMarking: NSZXTT*DS90C*402M; PowerWise: N; CompType: Interface IC; High-Reliability: Y; DatasheetVersion: Aug-2005; PackageVersion: revM, May-2009; PackageReference: M08A; PackageDescription: SOIC Narrow, 4.9 x 3.9 x 1.45mm, 8 Lead, 1.27mm Pitch; RoHS: N; PinCount: 8; Code_JEDEC: MS-012-AA; Code_IPC: SOIC127P600-8; ComponentLink1Description: Manufacturer URL; ComponentLink1URL: http://www.national.com/; ComponentLink2Description: DS90C402 Datasheet; ComponentLink2URL: http://www.national.com/ds/DS/DS90C402.pdf; ComponentLink3Description: DS90C402 Web Page; ComponentLink3URL: http://www.national.com/pf/DS/DS90C402.html; ComponentLink4Description: M08A Package Page; ComponentLink4URL: http://www.national.com/packaging/folders/m08a.html
footprint M08A_N (SOIC, 8-Leads, Body 4.9x3.9mm, Pitch 1.27mm, IPC Medium Density)
footprint M08A_L (SOIC, 8-Leads, Body 4.9x3.9mm, Pitch 1.27mm, IPC High Density)
footprint M08A_M (SOIC, 8-Leads, Body 4.9x3.9mm, Pitch 1.27mm, IPC Low Density)
pins: 1 VCC (power), 2 RO1 (out), 3 RI1+ (in), 4 RI1- (in), 5 GND (power), 6 RO2 (out), 7 RI2+ (in), 8 RI2- (in)

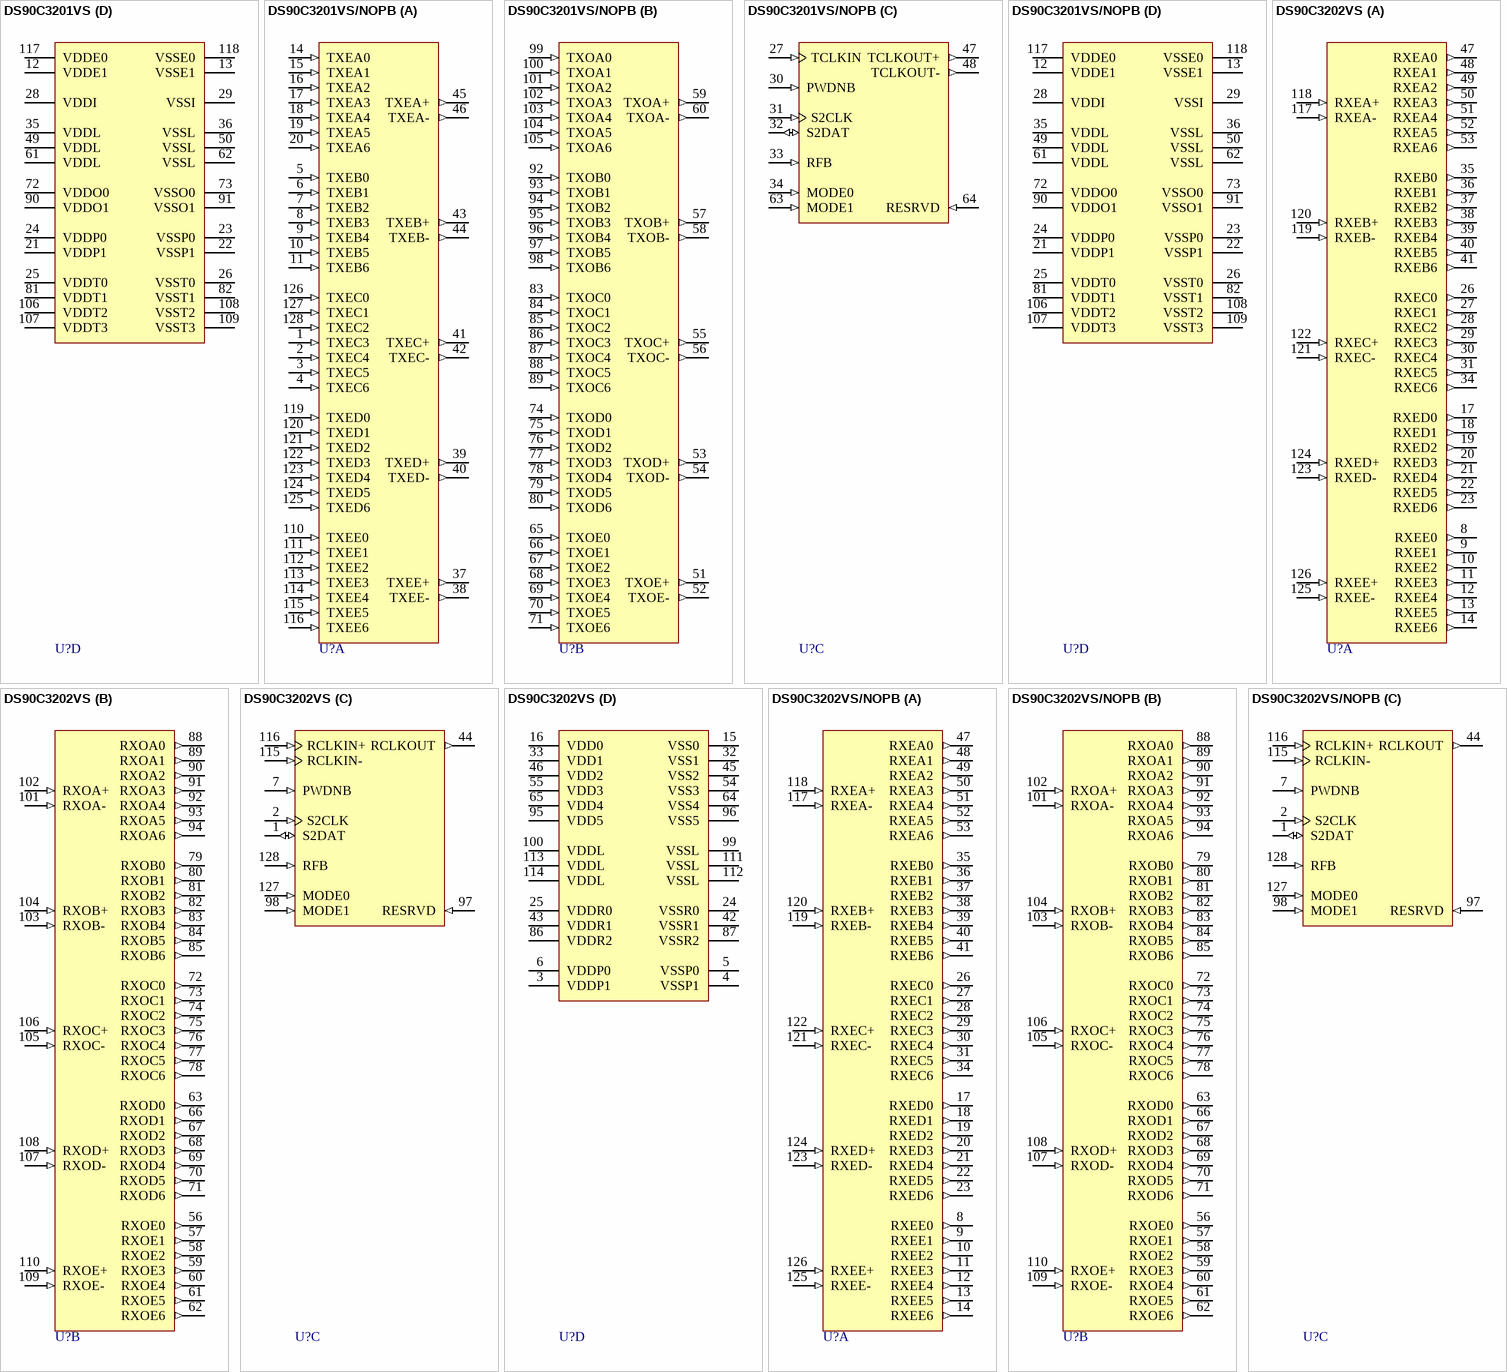
[diagram p37: symbols DS90C3201VS to DS90C3202VS/NOPB]

## DS90C3201VS
designator U?
3.3V 8 MHz to 135 MHz Dual FPD-Link Transmitter, 128-pin TQFP; PartNumber: DS90C3201VS; Manufacturer: National Semiconductor; PackageTopMarking: NSUZXYYTT*DS90C3201VS; PowerWise: N; CompType: Interface IC; High-Reliability: Y; DatasheetVersion: Sep-2008; PackageVersion: revA, Nov-2001; PackageReference: VJX128A; PackageDescription: TQFP, 14 x 14 x 1.0mm, 128 Lead, 0.4mm Pitch; RoHS: Y; PinCount: 128; ComponentLink1Description: Manufacturer URL; ComponentLink1URL: http://www.national.com/; ComponentLink2Description: DS90C3201 Datasheet; ComponentLink2URL: http://www.national.com/ds/DS/DS90C3201.pdf; ComponentLink3Description: DS90C3201 Web Page; ComponentLink3URL: http://www.national.com/pf/DS/DS90C3201.html; ComponentLink4Description: VJX128A Package Page; ComponentLink4URL: http://www.national.com/packaging/folders/vjx128a.html
footprint VJX128A_N (Thin QFP, 128-Leads, Body 14x14mm, Pitch 0.4mm, IPC Medium Density)
footprint VJX128A_L (Thin QFP, 128-Leads, Body 14x14mm, Pitch 0.4mm, IPC High Density)
footprint VJX128A_M (Thin QFP, 128-Leads, Body 14x14mm, Pitch 0.4mm, IPC Low Density)
part A pins: 1 TXEC3 (in), 2 TXEC4 (in), 3 TXEC5 (in), 4 TXEC6 (in), 5 TXEB0 (in), 6 TXEB1 (in), 7 TXEB2 (in), 8 TXEB3 (in), 9 TXEB4 (in), 10 TXEB5 (in), 11 TXEB6 (in), 14 TXEA0 (in), 15 TXEA1 (in), 16 TXEA2 (in), 17 TXEA3 (in), 18 TXEA4 (in), 19 TXEA5 (in), 20 TXEA6 (in), 37 TXEE+ (out), 38 TXEE- (out), 39 TXED+ (out), 40 TXED- (out), 41 TXEC+ (out), 42 TXEC- (out), 43 TXEB+ (out), 44 TXEB- (out), 45 TXEA+ (out), 46 TXEA- (out), 110 TXEE0 (in), 111 TXEE1 (in), 112 TXEE2 (in), 113 TXEE3 (in), 114 TXEE4 (in), 115 TXEE5 (in), 116 TXEE6 (in), 119 TXED0 (in), 120 TXED1 (in), 121 TXED2 (in), 122 TXED3 (in), 123 TXED4 (in), 124 TXED5 (in), 125 TXED6 (in), 126 TXEC0 (in), 127 TXEC1 (in), 128 TXEC2 (in)
part B pins: 51 TXOE+ (out), 52 TXOE- (out), 53 TXOD+ (out), 54 TXOD- (out), 55 TXOC+ (out), 56 TXOC- (out), 57 TXOB+ (out), 58 TXOB- (out), 59 TXOA+ (out), 60 TXOA- (out), 65 TXOE0 (in), 66 TXOE1 (in), 67 TXOE2 (in), 68 TXOE3 (in), 69 TXOE4 (in), 70 TXOE5 (in), 71 TXOE6 (in), 74 TXOD0 (in), 75 TXOD1 (in), 76 TXOD2 (in), 77 TXOD3 (in), 78 TXOD4 (in), 79 TXOD5 (in), 80 TXOD6 (in), 83 TXOC0 (in), 84 TXOC1 (in), 85 TXOC2 (in), 86 TXOC3 (in), 87 TXOC4 (in), 88 TXOC5 (in), 89 TXOC6 (in), 92 TXOB0 (in), 93 TXOB1 (in), 94 TXOB2 (in), 95 TXOB3 (in), 96 TXOB4 (in), 97 TXOB5 (in), 98 TXOB6 (in), 99 TXOA0 (in), 100 TXOA1 (in), 101 TXOA2 (in), 102 TXOA3 (in), 103 TXOA4 (in), 104 TXOA5 (in), 105 TXOA6 (in)
part C pins: 27 TCLKIN (in), 30 PWDNB (in), 31 S2CLK (in), 32 S2DAT (io), 33 RFB (in), 34 MODE0 (in), 47 TCLKOUT+ (out), 48 TCLKOUT- (out), 63 MODE1 (in), 64 RESRVD (in)
part D pins: 12 VDDE1 (power), 13 VSSE1 (power), 21 VDDP1 (power), 22 VSSP1 (power), 23 VSSP0 (power), 24 VDDP0 (power), 25 VDDT0 (power), 26 VSST0 (power), 28 VDDI (power), 29 VSSI (power), 35 VDDL (power), 36 VSSL (power), 49 VDDL (power), 50 VSSL (power), 61 VDDL (power), 62 VSSL (power), 72 VDDO0 (power), 73 VSSO0 (power), 81 VDDT1 (power), 82 VSST1 (power), 90 VDDO1 (power), 91 VSSO1 (power), 106 VDDT2 (power), 107 VDDT3 (power), 108 VSST2 (power), 109 VSST3 (power), 117 VDDE0 (power), 118 VSSE0 (power)

## DS90C3201VS/NOPB
designator U?
3.3V 8 MHz to 135 MHz Dual FPD-Link Transmitter, 128-pin TQFP, Pb-Free; PartNumber: DS90C3201VS/NOPB; Manufacturer: National Semiconductor; PackageTopMarking: NSUZXYYTTE#*DS90C3201VS; PowerWise: N; CompType: Interface IC; High-Reliability: Y; DatasheetVersion: Sep-2008; PackageVersion: revA, Nov-2001; PackageReference: VJX128A; PackageDescription: TQFP, 14 x 14 x 1.0mm, 128 Lead, 0.4mm Pitch; RoHS: Y; PinCount: 128; ComponentLink1Description: Manufacturer URL; ComponentLink1URL: http://www.national.com/; ComponentLink2Description: DS90C3201 Datasheet; ComponentLink2URL: http://www.national.com/ds/DS/DS90C3201.pdf; ComponentLink3Description: DS90C3201 Web Page; ComponentLink3URL: http://www.national.com/pf/DS/DS90C3201.html; ComponentLink4Description: VJX128A Package Page; ComponentLink4URL: http://www.national.com/packaging/folders/vjx128a.html
footprint VJX128A_N (Thin QFP, 128-Leads, Body 14x14mm, Pitch 0.4mm, IPC Medium Density)
footprint VJX128A_L (Thin QFP, 128-Leads, Body 14x14mm, Pitch 0.4mm, IPC High Density)
footprint VJX128A_M (Thin QFP, 128-Leads, Body 14x14mm, Pitch 0.4mm, IPC Low Density)
part A pins: 1 TXEC3 (in), 2 TXEC4 (in), 3 TXEC5 (in), 4 TXEC6 (in), 5 TXEB0 (in), 6 TXEB1 (in), 7 TXEB2 (in), 8 TXEB3 (in), 9 TXEB4 (in), 10 TXEB5 (in), 11 TXEB6 (in), 14 TXEA0 (in), 15 TXEA1 (in), 16 TXEA2 (in), 17 TXEA3 (in), 18 TXEA4 (in), 19 TXEA5 (in), 20 TXEA6 (in), 37 TXEE+ (out), 38 TXEE- (out), 39 TXED+ (out), 40 TXED- (out), 41 TXEC+ (out), 42 TXEC- (out), 43 TXEB+ (out), 44 TXEB- (out), 45 TXEA+ (out), 46 TXEA- (out), 110 TXEE0 (in), 111 TXEE1 (in), 112 TXEE2 (in), 113 TXEE3 (in), 114 TXEE4 (in), 115 TXEE5 (in), 116 TXEE6 (in), 119 TXED0 (in), 120 TXED1 (in), 121 TXED2 (in), 122 TXED3 (in), 123 TXED4 (in), 124 TXED5 (in), 125 TXED6 (in), 126 TXEC0 (in), 127 TXEC1 (in), 128 TXEC2 (in)
part B pins: 51 TXOE+ (out), 52 TXOE- (out), 53 TXOD+ (out), 54 TXOD- (out), 55 TXOC+ (out), 56 TXOC- (out), 57 TXOB+ (out), 58 TXOB- (out), 59 TXOA+ (out), 60 TXOA- (out), 65 TXOE0 (in), 66 TXOE1 (in), 67 TXOE2 (in), 68 TXOE3 (in), 69 TXOE4 (in), 70 TXOE5 (in), 71 TXOE6 (in), 74 TXOD0 (in), 75 TXOD1 (in), 76 TXOD2 (in), 77 TXOD3 (in), 78 TXOD4 (in), 79 TXOD5 (in), 80 TXOD6 (in), 83 TXOC0 (in), 84 TXOC1 (in), 85 TXOC2 (in), 86 TXOC3 (in), 87 TXOC4 (in), 88 TXOC5 (in), 89 TXOC6 (in), 92 TXOB0 (in), 93 TXOB1 (in), 94 TXOB2 (in), 95 TXOB3 (in), 96 TXOB4 (in), 97 TXOB5 (in), 98 TXOB6 (in), 99 TXOA0 (in), 100 TXOA1 (in), 101 TXOA2 (in), 102 TXOA3 (in), 103 TXOA4 (in), 104 TXOA5 (in), 105 TXOA6 (in)
part C pins: 27 TCLKIN (in), 30 PWDNB (in), 31 S2CLK (in), 32 S2DAT (io), 33 RFB (in), 34 MODE0 (in), 47 TCLKOUT+ (out), 48 TCLKOUT- (out), 63 MODE1 (in), 64 RESRVD (in)
part D pins: 12 VDDE1 (power), 13 VSSE1 (power), 21 VDDP1 (power), 22 VSSP1 (power), 23 VSSP0 (power), 24 VDDP0 (power), 25 VDDT0 (power), 26 VSST0 (power), 28 VDDI (power), 29 VSSI (power), 35 VDDL (power), 36 VSSL (power), 49 VDDL (power), 50 VSSL (power), 61 VDDL (power), 62 VSSL (power), 72 VDDO0 (power), 73 VSSO0 (power), 81 VDDT1 (power), 82 VSST1 (power), 90 VDDO1 (power), 91 VSSO1 (power), 106 VDDT2 (power), 107 VDDT3 (power), 108 VSST2 (power), 109 VSST3 (power), 117 VDDE0 (power), 118 VSSE0 (power)

## DS90C3202VS
designator U?
3.3V 8 MHz to 135 MHz Dual FPD-Link Receiver, 128-pin TQFP; PartNumber: DS90C3202VS; Manufacturer: National Semiconductor; PackageTopMarking: NSUZXYYTT*DS90C3202VS; PowerWise: N; CompType: Interface IC; High-Reliability: Y; DatasheetVersion: Sep-2006; PackageVersion: revA, Nov-2001; PackageReference: VJX128A; PackageDescription: TQFP, 14 x 14 x 1.0mm, 128 Lead, 0.4mm Pitch; RoHS: Y; PinCount: 128; ComponentLink1Description: Manufacturer URL; ComponentLink1URL: http://www.national.com/; ComponentLink2Description: DS90C3202 Datasheet; ComponentLink2URL: http://www.national.com/ds/DS/DS90C3202.pdf; ComponentLink3Description: DS90C3202 Web Page; ComponentLink3URL: http://www.national.com/pf/DS/DS90C3202.html; ComponentLink4Description: VJX128A Package Page; ComponentLink4URL: http://www.national.com/packaging/folders/vjx128a.html
footprint VJX128A_N (Thin QFP, 128-Leads, Body 14x14mm, Pitch 0.4mm, IPC Medium Density)
footprint VJX128A_L (Thin QFP, 128-Leads, Body 14x14mm, Pitch 0.4mm, IPC High Density)
footprint VJX128A_M (Thin QFP, 128-Leads, Body 14x14mm, Pitch 0.4mm, IPC Low Density)
part A pins: 8 RXEE0 (out), 9 RXEE1 (out), 10 RXEE2 (out), 11 RXEE3 (out), 12 RXEE4 (out), 13 RXEE5 (out), 14 RXEE6 (out), 17 RXED0 (out), 18 RXED1 (out), 19 RXED2 (out), 20 RXED3 (out), 21 RXED4 (out), 22 RXED5 (out), 23 RXED6 (out), 26 RXEC0 (out), 27 RXEC1 (out), 28 RXEC2 (out), 29 RXEC3 (out), 30 RXEC4 (out), 31 RXEC5 (out), 34 RXEC6 (out), 35 RXEB0 (out), 36 RXEB1 (out), 37 RXEB2 (out), 38 RXEB3 (out), 39 RXEB4 (out), 40 RXEB5 (out), 41 RXEB6 (out), 47 RXEA0 (out), 48 RXEA1 (out), 49 RXEA2 (out), 50 RXEA3 (out), 51 RXEA4 (out), 52 RXEA5 (out), 53 RXEA6 (out), 117 RXEA- (in), 118 RXEA+ (in), 119 RXEB- (in), 120 RXEB+ (in), 121 RXEC- (in), 122 RXEC+ (in), 123 RXED- (in), 124 RXED+ (in), 125 RXEE- (in), 126 RXEE+ (in)
part B pins: 56 RXOE0 (out), 57 RXOE1 (out), 58 RXOE2 (out), 59 RXOE3 (out), 60 RXOE4 (out), 61 RXOE5 (out), 62 RXOE6 (out), 63 RXOD0 (out), 66 RXOD1 (out), 67 RXOD2 (out), 68 RXOD3 (out), 69 RXOD4 (out), 70 RXOD5 (out), 71 RXOD6 (out), 72 RXOC0 (out), 73 RXOC1 (out), 74 RXOC2 (out), 75 RXOC3 (out), 76 RXOC4 (out), 77 RXOC5 (out), 78 RXOC6 (out), 79 RXOB0 (out), 80 RXOB1 (out), 81 RXOB2 (out), 82 RXOB3 (out), 83 RXOB4 (out), 84 RXOB5 (out), 85 RXOB6 (out), 88 RXOA0 (out), 89 RXOA1 (out), 90 RXOA2 (out), 91 RXOA3 (out), 92 RXOA4 (out), 93 RXOA5 (out), 94 RXOA6 (out), 101 RXOA- (in), 102 RXOA+ (in), 103 RXOB- (in), 104 RXOB+ (in), 105 RXOC- (in), 106 RXOC+ (in), 107 RXOD- (in), 108 RXOD+ (in), 109 RXOE- (in), 110 RXOE+ (in)
part C pins: 1 S2DAT (io), 2 S2CLK (in), 7 PWDNB (in), 44 RCLKOUT (out), 97 RESRVD (in), 98 MODE1 (in), 115 RCLKIN- (in), 116 RCLKIN+ (in), 127 MODE0 (in), 128 RFB (in)
part D pins: 3 VDDP1 (power), 4 VSSP1 (power), 5 VSSP0 (power), 6 VDDP0 (power), 15 VSS0 (power), 16 VDD0 (power), 24 VSSR0 (power), 25 VDDR0 (power), 32 VSS1 (power), 33 VDD1 (power), 42 VSSR1 (power), 43 VDDR1 (power), 45 VSS2 (power), 46 VDD2 (power), 54 VSS3 (power), 55 VDD3 (power), 64 VSS4 (power), 65 VDD4 (power), 86 VDDR2 (power), 87 VSSR2 (power), 95 VDD5 (power), 96 VSS5 (power), 99 VSSL (power), 100 VDDL (power), 111 VSSL (power), 112 VSSL (power), 113 VDDL (power), 114 VDDL (power)

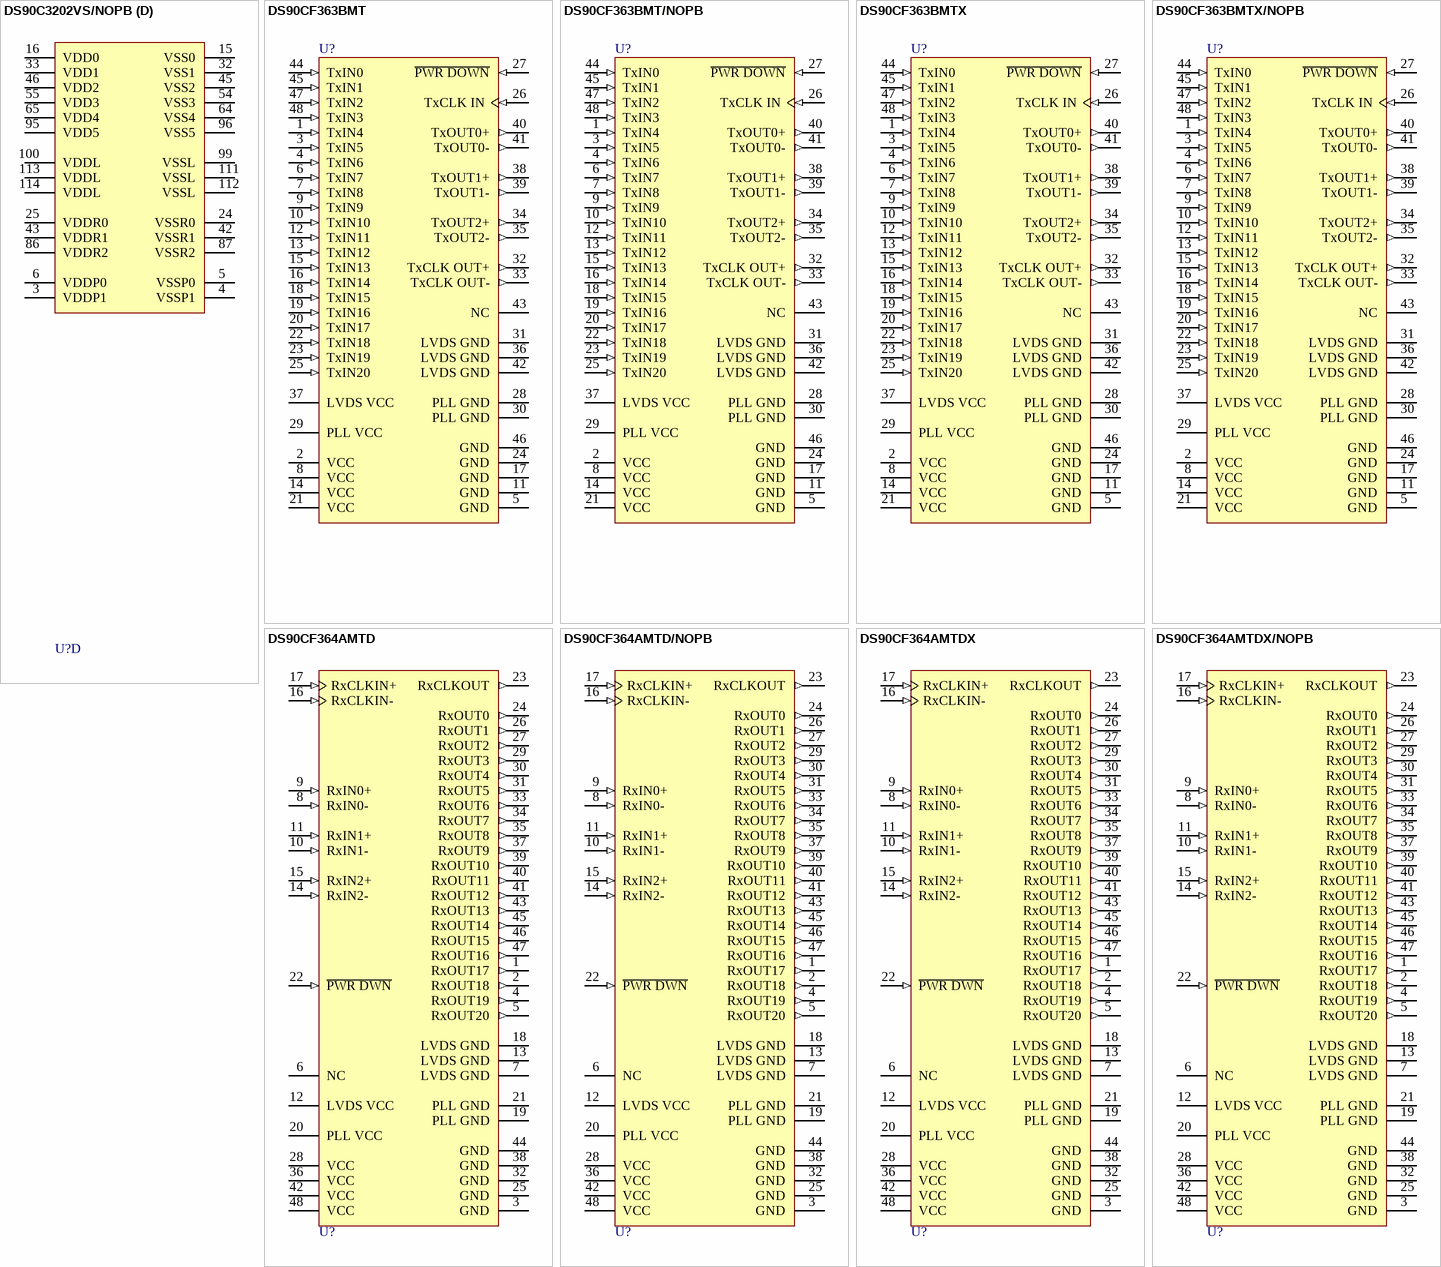
[diagram p38: symbols DS90C3202VS/NOPB to DS90CF364AMTDX/NOPB]

## DS90C3202VS/NOPB
designator U?
3.3V 8 MHz to 135 MHz Dual FPD-Link Receiver, 128-pin TQFP, Pb-Free; PartNumber: DS90C3202VS/NOPB; Manufacturer: National Semiconductor; PackageTopMarking: NSUZXYYTTE#*DS90C3202VS; PowerWise: N; CompType: Interface IC; High-Reliability: Y; DatasheetVersion: Sep-2006; PackageVersion: revA, Nov-2001; PackageReference: VJX128A; PackageDescription: TQFP, 14 x 14 x 1.0mm, 128 Lead, 0.4mm Pitch; RoHS: Y; PinCount: 128; ComponentLink1Description: Manufacturer URL; ComponentLink1URL: http://www.national.com/; ComponentLink2Description: DS90C3202 Datasheet; ComponentLink2URL: http://www.national.com/ds/DS/DS90C3202.pdf; ComponentLink3Description: DS90C3202 Web Page; ComponentLink3URL: http://www.national.com/pf/DS/DS90C3202.html; ComponentLink4Description: VJX128A Package Page; ComponentLink4URL: http://www.national.com/packaging/folders/vjx128a.html
footprint VJX128A_N (Thin QFP, 128-Leads, Body 14x14mm, Pitch 0.4mm, IPC Medium Density)
footprint VJX128A_L (Thin QFP, 128-Leads, Body 14x14mm, Pitch 0.4mm, IPC High Density)
footprint VJX128A_M (Thin QFP, 128-Leads, Body 14x14mm, Pitch 0.4mm, IPC Low Density)
part A pins: 8 RXEE0 (out), 9 RXEE1 (out), 10 RXEE2 (out), 11 RXEE3 (out), 12 RXEE4 (out), 13 RXEE5 (out), 14 RXEE6 (out), 17 RXED0 (out), 18 RXED1 (out), 19 RXED2 (out), 20 RXED3 (out), 21 RXED4 (out), 22 RXED5 (out), 23 RXED6 (out), 26 RXEC0 (out), 27 RXEC1 (out), 28 RXEC2 (out), 29 RXEC3 (out), 30 RXEC4 (out), 31 RXEC5 (out), 34 RXEC6 (out), 35 RXEB0 (out), 36 RXEB1 (out), 37 RXEB2 (out), 38 RXEB3 (out), 39 RXEB4 (out), 40 RXEB5 (out), 41 RXEB6 (out), 47 RXEA0 (out), 48 RXEA1 (out), 49 RXEA2 (out), 50 RXEA3 (out), 51 RXEA4 (out), 52 RXEA5 (out), 53 RXEA6 (out), 117 RXEA- (in), 118 RXEA+ (in), 119 RXEB- (in), 120 RXEB+ (in), 121 RXEC- (in), 122 RXEC+ (in), 123 RXED- (in), 124 RXED+ (in), 125 RXEE- (in), 126 RXEE+ (in)
part B pins: 56 RXOE0 (out), 57 RXOE1 (out), 58 RXOE2 (out), 59 RXOE3 (out), 60 RXOE4 (out), 61 RXOE5 (out), 62 RXOE6 (out), 63 RXOD0 (out), 66 RXOD1 (out), 67 RXOD2 (out), 68 RXOD3 (out), 69 RXOD4 (out), 70 RXOD5 (out), 71 RXOD6 (out), 72 RXOC0 (out), 73 RXOC1 (out), 74 RXOC2 (out), 75 RXOC3 (out), 76 RXOC4 (out), 77 RXOC5 (out), 78 RXOC6 (out), 79 RXOB0 (out), 80 RXOB1 (out), 81 RXOB2 (out), 82 RXOB3 (out), 83 RXOB4 (out), 84 RXOB5 (out), 85 RXOB6 (out), 88 RXOA0 (out), 89 RXOA1 (out), 90 RXOA2 (out), 91 RXOA3 (out), 92 RXOA4 (out), 93 RXOA5 (out), 94 RXOA6 (out), 101 RXOA- (in), 102 RXOA+ (in), 103 RXOB- (in), 104 RXOB+ (in), 105 RXOC- (in), 106 RXOC+ (in), 107 RXOD- (in), 108 RXOD+ (in), 109 RXOE- (in), 110 RXOE+ (in)
part C pins: 1 S2DAT (io), 2 S2CLK (in), 7 PWDNB (in), 44 RCLKOUT (out), 97 RESRVD (in), 98 MODE1 (in), 115 RCLKIN- (in), 116 RCLKIN+ (in), 127 MODE0 (in), 128 RFB (in)
part D pins: 3 VDDP1 (power), 4 VSSP1 (power), 5 VSSP0 (power), 6 VDDP0 (power), 15 VSS0 (power), 16 VDD0 (power), 24 VSSR0 (power), 25 VDDR0 (power), 32 VSS1 (power), 33 VDD1 (power), 42 VSSR1 (power), 43 VDDR1 (power), 45 VSS2 (power), 46 VDD2 (power), 54 VSS3 (power), 55 VDD3 (power), 64 VSS4 (power), 65 VDD4 (power), 86 VDDR2 (power), 87 VSSR2 (power), 95 VDD5 (power), 96 VSS5 (power), 99 VSSL (power), 100 VDDL (power), 111 VSSL (power), 112 VSSL (power), 113 VDDL (power), 114 VDDL (power)

## DS90CF363BMT
designator U?
+3.3V Programmable LVDS Transmitter 18-Bit Flat Panel Display (FPD) Link - 65MHz, 48-pin TSSOP; PartNumber: DS90CF363BMT; Manufacturer: National Semiconductor; PackageTopMarking: NSUZXYTTE#*DS90CF363BMT; PowerWise: N; CompType: Interface IC; High-Reliability: Y; DatasheetVersion: Oct-2006; PackageVersion: revE, Apr-2003; PackageReference: MTD48; PackageDescription: Molded TSSOP, Jedec, 12.5 x 6.1 x 0.9mm Body, 48 Lead, 0.50mm Pitch; RoHS: N; PinCount: 48; Code_JEDEC: MO-153-ED; ComponentLink1Description: Manufacturer URL; ComponentLink1URL: http://www.national.com/; ComponentLink2Description: DS90CF363B Datasheet; ComponentLink2URL: http://www.national.com/ds/DS/DS90CF363B.pdf; ComponentLink3Description: DS90CF363B Web Page; ComponentLink3URL: http://www.national.com/pf/DS/DS90CF363B.html; ComponentLink4Description: MTD48 Package Page; ComponentLink4URL: http://www.national.com/packaging/folders/mtd48.html
footprint MTD48_N (TSSOP, 48-Leads, Body 12.5x6.1mm, Pitch 0.5mm, IPC Medium Density)
footprint MTD48_L (TSSOP, 48-Leads, Body 12.5x6.1mm, Pitch 0.5mm, IPC High Density)
footprint MTD48_M (TSSOP, 48-Leads, Body 12.5x6.1mm, Pitch 0.5mm, IPC Low Density)
pins: 1 TxIN4 (in), 2 VCC (power), 3 TxIN5 (in), 4 TxIN6 (in), 5 GND (power), 6 TxIN7 (in), 7 TxIN8 (in), 8 VCC (power), 9 TxIN9 (in), 10 TxIN10 (in), 11 GND (power), 12 TxIN11 (in), 13 TxIN12 (in), 14 VCC (power), 15 TxIN13 (in), 16 TxIN14 (in), 17 GND (power), 18 TxIN15 (in), 19 TxIN16 (in), 20 TxIN17 (in), 21 VCC (power), 22 TxIN18 (in), 23 TxIN19 (in), 24 GND (power), 25 TxIN20 (in), 26 TxCLK IN (in), 27 ~{PWR DOWN} (in), 28 PLL GND (power), 29 PLL VCC (power), 30 PLL GND (power), 31 LVDS GND (power), 32 TxCLK OUT+ (out), 33 TxCLK OUT- (out), 34 TxOUT2+ (out), 35 TxOUT2- (out), 36 LVDS GND (power), 37 LVDS VCC (power), 38 TxOUT1+ (out), 39 TxOUT1- (out), 40 TxOUT0+ (out), 41 TxOUT0- (out), 42 LVDS GND (power), 43 NC, 44 TxIN0 (in), 45 TxIN1 (in), 46 GND (power), 47 TxIN2 (in), 48 TxIN3 (in)